# EAGLE library part OPENSONDE_BUS (library OpenSondeBus)
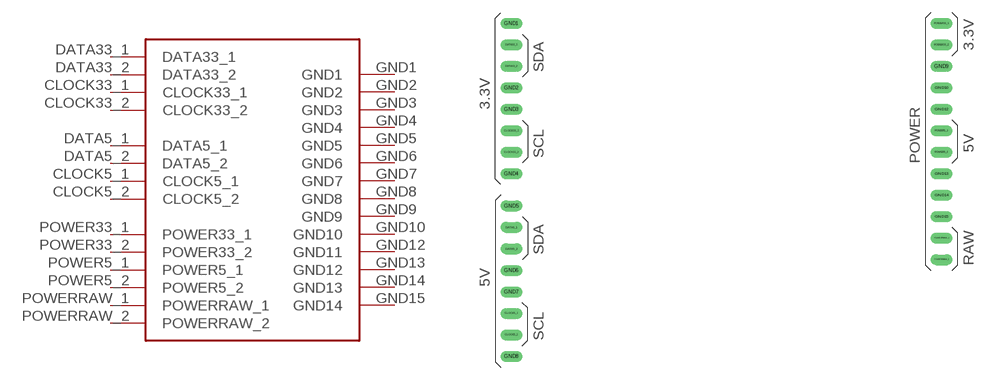
[diagram p0: symbol with the pads of OPENSONDE_BUS; footprint OPENSONDE_BUS]

Designator prefix -

## OPENSONDE_BUS  [OPENSONDE_BUS]
CLOCK5_1  CLOCK5_1
CLOCK5_2  CLOCK5_2
CLOCK33_1  CLOCK33_1
CLOCK33_2  CLOCK33_2
DATA5_1  DATA5_1
DATA5_2  DATA5_2
DATA33_1  DATA33_1
DATA33_2  DATA33_2
GND1  GND1
GND2  GND2
GND3  GND3
GND4  GND4
GND5  GND5
GND6  GND6
GND7  GND7
GND8  GND8
GND9  GND9
GND10  GND10
GND12  GND11
GND13  GND12
GND14  GND13
GND15  GND14
POWER5_1  POWER5_1
POWER5_2  POWER5_2
POWER33_1  POWER33_1
POWER33_2  POWER33_2
POWERRAW_1  POWERRAW_1
POWERRAW_2  POWERRAW_2

## Footprint OPENSONDE_BUS (pad centres in mm)
drill 0.8 long: CLOCK5_1 -25.4,-11.43; CLOCK5_2 -25.4,-13.97; CLOCK33_1 -25.4,10.16; CLOCK33_2 -25.4,7.62; DATA5_1 -25.4,-1.27; DATA5_2 -25.4,-3.81; DATA33_1 -25.4,20.32; DATA33_2 -25.4,17.78; GND1 -25.4,22.86; GND2 -25.4,15.24; GND3 -25.4,12.7; GND4 -25.4,5.08; GND5 -25.4,1.27; GND6 -25.4,-6.35; GND7 -25.4,-8.89; GND8 -25.4,-16.51; GND9 25.4,17.78; GND10 25.4,15.24; GND12 25.4,12.7; GND13 25.4,5.08; GND14 25.4,2.54; GND15 25.4,0; POWER5_1 25.4,10.16; POWER5_2 25.4,7.62; POWER33_1 25.4,22.86; POWER33_2 25.4,20.32; POWERRAW_1 25.4,-2.54; POWERRAW_2 25.4,-5.08